# Altium footprint library BT740.PcbLib: 1 footprints
Each footprint in its own frame and in the unit in brackets; x right, y up, seen from the top. Pads: shape width x height; smd on the part's side, far side on the other; paste and mask are expansions set on the pad; w line width, h text height; cw(c..) or ccw(c..) is an arc to the next point about the centre after c.
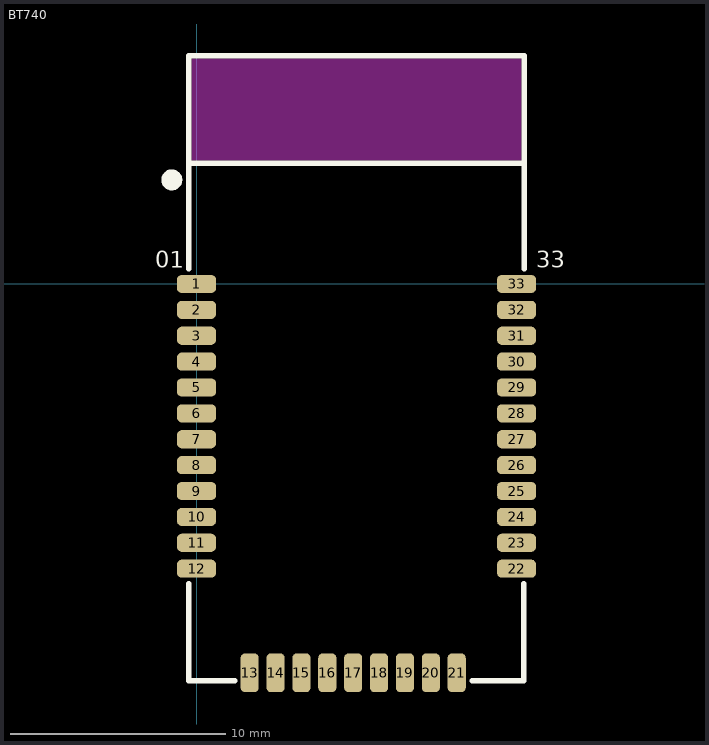
[diagram p0: the footprint, top view; thin cyan lines are the x and y axes]

## BT740 [mm]
pads (33):
  rrect50% 1.8x0.84 smd: 1(0,0) 2(0,-1.2) 3(0,-2.4) 4(0,-3.6) 5(0,-4.8) 6(0,-6) 7(0,-7.2) 8(0,-8.4) 9(0,-9.6) 10(0,-10.8) 11(0,-12) 12(0,-13.2) 22(14.84,-13.2) 23(14.84,-12) 24(14.84,-10.8) 25(14.84,-9.6) 26(14.84,-8.4) 27(14.84,-7.2) 28(14.84,-6) 29(14.84,-4.8) 30(14.84,-3.6) 31(14.84,-2.4) 32(14.84,-1.2) 33(14.84,0)
  rrect50% 0.84x1.8 smd: 13(2.464,-18.028) 14(3.664,-18.028) 15(4.864,-18.028) 16(6.064,-18.028) 17(7.264,-18.028) 18(8.464,-18.028) 19(9.664,-18.028) 20(10.864,-18.028) 21(12.064,-18.028)
Top Overlay:
  circle w0.254: c-1.143,4.826 r0.127
  circle w0.254: c-1.143,4.826 r0.359
  lines w0.254: -0.364,-13.894 -0.364,-18.387 1.778,-18.387 ; -0.364,0.711 -0.364,10.579 15.189,10.579 ; -0.364,5.599 15.189,5.599 ; 12.776,-18.387 15.177,-18.387 15.177,-13.894 ; 15.187,0.711 15.187,10.579
  text "33" at 15.748,0.762 h0.76
  text "01" at -1.905,0.762 h0.76
Keep-Out Layer:
  rectangle: -0.229,5.715 15.062,10.465
3D body: height 2.51, standoff 0.01, extent -0.229,-18.263 15.067,10.45